# Altium schematic symbol library SCH - LOGIC - SN74LVC2GU04DCKR.SCHLIB: 1 symbol
Pins are listed as number, name and electrical type; pins without a type are passive.

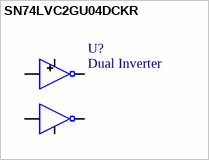
[diagram p0: symbol SN74LVC2GU04DCKR]

## SN74LVC2GU04DCKR
designator U?, comment Dual Inverter
This dual inverter is designed for 1.65-V to 5.5-V VCC / operation.; LCSC Part #: C116660; JLCSMT Rotation: 180
footprint SN74LVC2GU04DCKR (TSOP, 6-Leads, Body 2,00x1,25mm, Pitch 0,65mm, IPC Medium Density)
pins: 1 IN1, 2 GND, 3 IN2, 4 OUT2, 5 VCC, 6 OUT2